# EAGLE library part FT232RL-REEL (library IC)
IC USB FS SERIAL UART 28-SSOP Manufacturer's datasheet <https://www.ftdichip.com/Support/Documents/DataSheets/ICs/DS_FT232R.pdf>
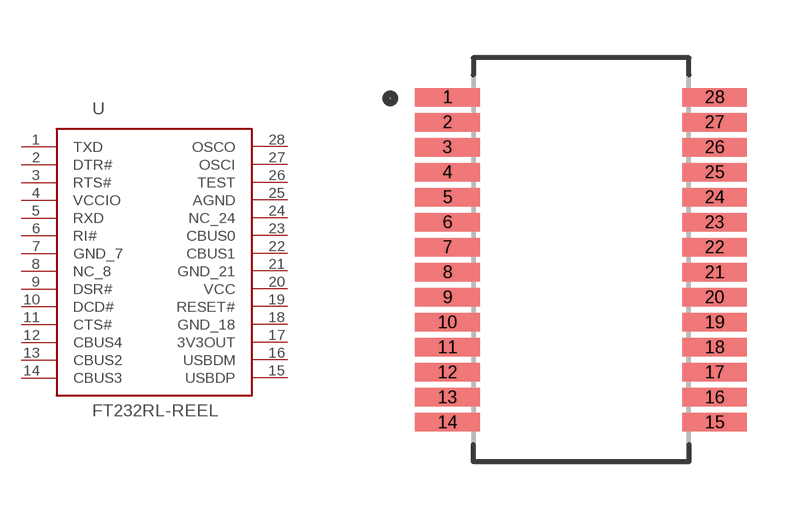
[diagram p47: symbol with the pads of SSOP-28; footprint SSOP-28]

Designator prefix U

## FT232RL-REEL (CREATED_BY: PCBLayout.com; DIGI-KEYPARTNUMBER: 768-1007-1-ND; MANUFACTURER: FTDI, Future Technology Devices International Ltd; MPN: FT232RL-REEL; PACKAGE: 28-SSOP)  [SSOP-28]
1  TXD  out
2  DTR#  out
3  RTS#  out
4  VCCIO  pwr
5  RXD  in
6  RI#  in
7  GND_7  pwr
8  NC_8  nc
9  DSR#  in
10  DCD#  in
11  CTS#  in
12  CBUS4
13  CBUS2
14  CBUS3
15  USBDP
16  USBDM
17  3V3OUT  out
18  GND_18  pwr
19  RESET#  in
20  VCC  pwr
21  GND_21  pwr
22  CBUS1
23  CBUS0
24  NC_24  nc
25  AGND  pwr
26  TEST  in
27  OSCI  in
28  OSCO  out

## Footprint SSOP-28 (pad centres in mm)
smd 1.68 x 0.48: 1 -3.47,4.225; 2 -3.47,3.575; 3 -3.47,2.925; 4 -3.47,2.275; 5 -3.47,1.625; 6 -3.47,0.975; 7 -3.47,0.325; 8 -3.47,-0.325; 9 -3.47,-0.975; 10 -3.47,-1.625; 11 -3.47,-2.275; 12 -3.47,-2.925; 13 -3.47,-3.575; 14 -3.47,-4.225; 15 3.47,-4.225; 16 3.47,-3.575; 17 3.47,-2.925; 18 3.47,-2.275; 19 3.47,-1.625; 20 3.47,-0.975; 21 3.47,-0.325; 22 3.47,0.325; 23 3.47,0.975; 24 3.47,1.625; 25 3.47,2.275; 26 3.47,2.925; 27 3.47,3.575; 28 3.47,4.225